# Altium schematic symbol library 219-4MST.SchLib: 1 symbol
Pins are listed as number, name and electrical type; pins without a type are passive.

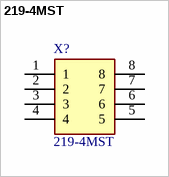
[diagram p0: symbol 219-4MST]

## 219-4MST
designator X?
DIP Switches / SIP Switches; Manufacturer_Name: CTS; Geometry.Height: 4.3mm; Mouser Part Number: 774-2194MST; Mouser Price/Stock: https://www.mouser.co.uk/ProductDetail/CTS-Electronic-Components/219-4MST?qs=qNzHFtQhdJ8xGV2Z9mul9A%3D%3D; Manufacturer_Part_Number: 219-4MST; Datasheet Link: https://componentsearchengine.com/Datasheets/1/219-4MST.pdf
footprint 2194MST
pins: 1, 2, 3, 4, 5, 6, 7, 8